# EAGLE library part 7SEGACOM* (library mita-akiba)
7SEG LED Anode Common Width=20mm (MD-UR8011AM @Sengoku, 150 yens) Width=23mm (NAR-101)
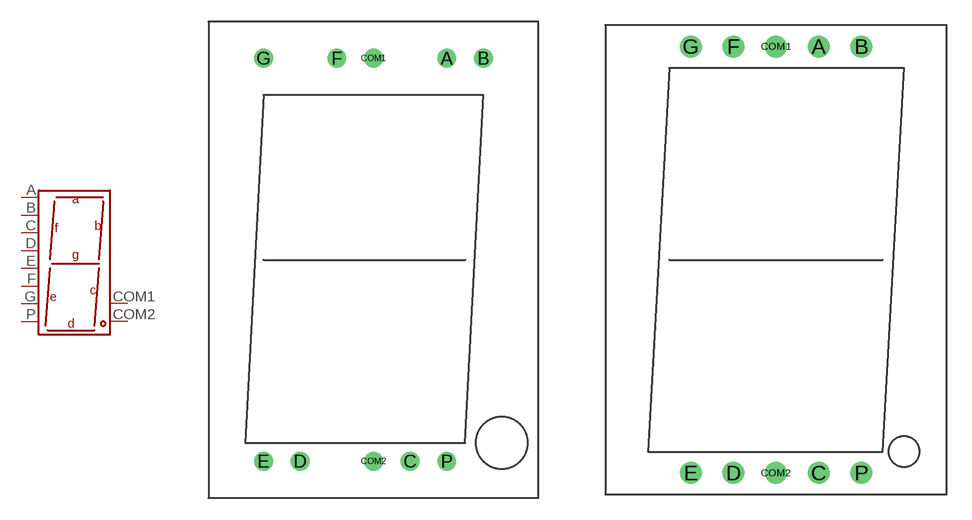
[diagram p23: symbol with the pads of 7SEG-23MM; footprints 7SEG-23MM, 7SEG-20MM]

Designator prefix -

## 7SEGACOMW23MM  [7SEG-23MM]
A  A  in
B  B  in
C  C  in
COM1  A1
COM2  A2
D  D  in
E  E  in
F  F  in
G  G  in
P  P  in

## 7SEGACOMW20MM  [7SEG-20MM]
Pads as for 7SEG-23MM

## Footprint 7SEG-23MM (pad centres in mm)
drill 0.8: A 5.08,13.97; B 7.62,13.97; C 2.54,-13.97; COM1 0,13.97; COM2 0,-13.97; D -5.08,-13.97; E -7.62,-13.97; F -2.54,13.97; G -7.62,13.97; P 5.08,-13.97

## Footprint 7SEG-20MM (pad centres in mm)
drill 0.8: A 2.54,12.7; B 5.08,12.7; C 2.54,-12.7; COM1 0,12.7; COM2 0,-12.7; D -2.54,-12.7; E -5.08,-12.7; F -2.54,12.7; G -5.08,12.7; P 5.08,-12.7